# Altium footprint library PHDR-1X1-TH-M.PcbLib: 1 footprints
Each footprint in its own frame and in the unit in brackets; x right, y up, seen from the top. Pads: shape width x height; smd on the part's side, far side on the other; paste and mask are expansions set on the pad; w line width, h text height; cw(c..) or ccw(c..) is an arc to the next point about the centre after c.
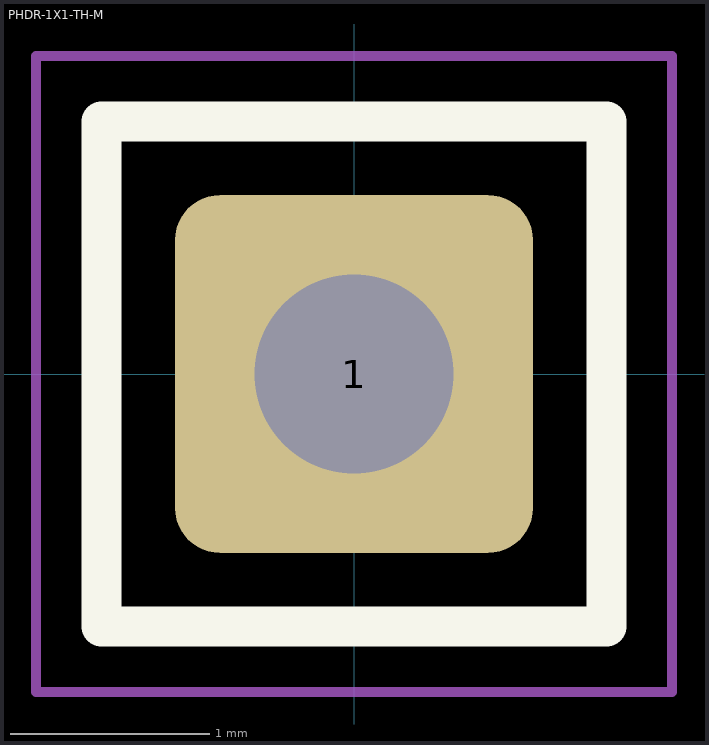
[diagram p0: the footprint, top view; thin cyan lines are the x and y axes]

## PHDR-1X1-TH-M [mm] "Pin Header 1x1 Male TH Pitch 2.54mm"
height 9.5
pads (1):
  rrect25% 1.8x1.8 hole 1: 1(0,0)
Top Overlay:
  lines w0.2: -1.27,1.27 1.27,1.27 ; -1.27,1.27 -1.27,-1.27 1.27,-1.27 1.27,1.27 ; -1.27,1.27 1.27,1.27
Top Assembly:
  lines w0.1: -1.27,-1.27 1.27,-1.27 1.27,1.27 -1.27,1.27 -1.27,-1.27
Top Courtyard:
  lines w0.05: -1.6,-1.6 1.6,-1.6 1.6,1.6 -1.6,1.6 -1.6,-1.6
Top Designator:
  text ".Designator" at -4.998,-0.333 h1
3D body "Pin Header 1x1 TH Pitch 2.54mm.stp": height 9.5, standoff -3.2, extent -1.27,-1.27 1.27,1.27